# EAGLE library part LTC3105 (library ICs)
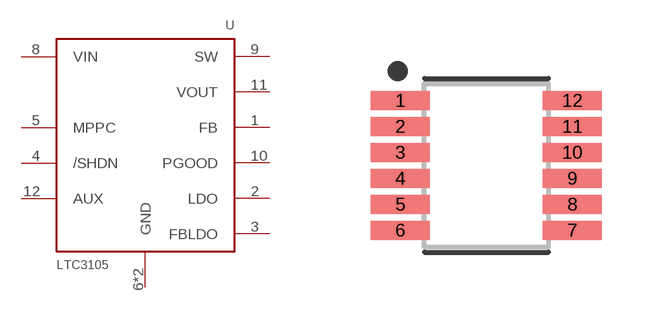
[diagram p0: symbol with the pads of MSOP12; footprint MSOP12]

Designator prefix -

## LTC3105MSOP12  [MSOP12]
1  FB
2  LDO
3  FBLDO
4  /SHDN
5  MPPC
6  GND
7  GND
8  VIN
9  SW
10  PGOOD
11  VOUT
12  AUX

## Footprint MSOP12 (pad centres in mm)
12-SOP, 0.65 mm pitch, 4.9 mm span, 4 X 3 X 1.1 mm body 12-pin SOP package with 0.65 mm pitch, 4.9 mm span with body size 4 X 3 X 1.1 mm
smd 1.471 x 0.475: 1 -2.15,1.625; 2 -2.15,0.975; 3 -2.15,0.325; 4 -2.15,-0.325; 5 -2.15,-0.975; 6 -2.15,-1.625; 7 2.15,-1.625; 8 2.15,-0.975; 9 2.15,-0.325; 10 2.15,0.325; 11 2.15,0.975; 12 2.15,1.625